# Altium integrated library INA219BIDCNR.IntLib: 1 symbol
Pins are listed as number, name and electrical type; pins without a type are passive.

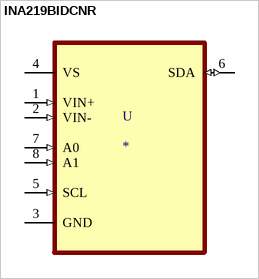
[diagram p0: symbol INA219BIDCNR]

## INA219BIDCNR
designator U
Current Monitor Regulator High-Side 10mA SOT-23-8; MP: INA219BIDCNR; MF: Texas Instruments; SnapEDA_Link: https://www.snapeda.com/parts/INA219BIDCNR/Texas%20Instruments/view-part/870494/?ref=snap; Value: *; Digi-Key_Part_Number: 296-46420-1-ND; Digi-Key_Purchase_URL: https://www.digikey.com.au/product-detail/en/texas-instruments/INA219BIDCNR/296-46420-1-ND/7033594?utm_source=snapeda&utm_medium=aggregator&utm_campaign=symbol; Package: SOT-23 Texas Instruments
footprint SOT65P280X145-8N
pins: 1 VIN+ (in), 2 VIN- (in), 3 GND, 4 VS (power), 5 SCL (in), 6 SDA (io), 7 A0 (in), 8 A1 (in)